# Altium footprint library HX711.PcbLib: 1 footprints
Each footprint in its own frame and in the unit in brackets; x right, y up, seen from the top. Pads: shape width x height; smd on the part's side, far side on the other; paste and mask are expansions set on the pad; w line width, h text height; cw(c..) or ccw(c..) is an arc to the next point about the centre after c.
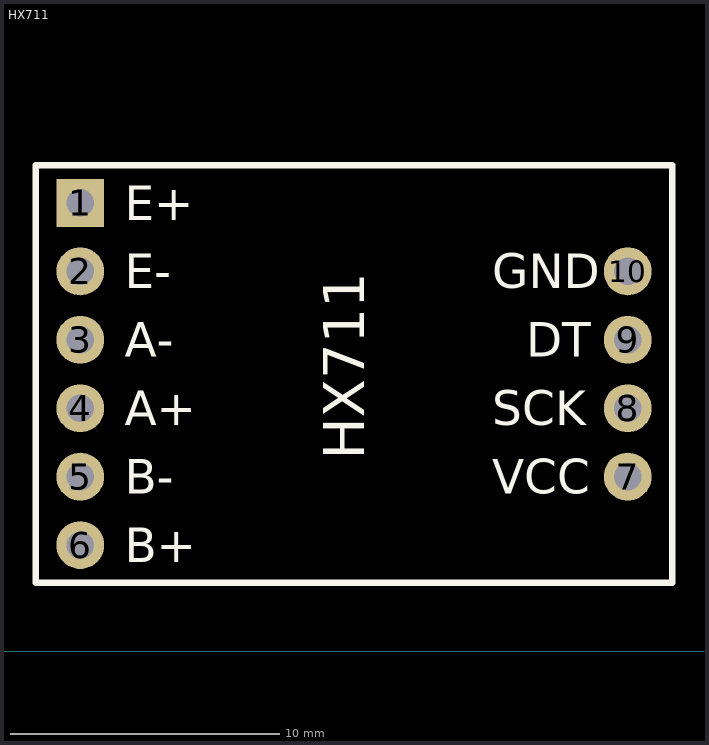
[diagram p0: the footprint, top view; thin cyan lines are the x and y axes]

## HX711 [mil]
pads (10):
  rect 70x70 hole 40: 1(155,655)
  round 70 hole 40: 2(155,555) 3(155,455) 4(155,355) 5(155,255) 6(155,155) 7(955,255) 8(955,355) 9(955,455) 10(955,555)
Top Overlay:
  lines w10: 90,100 1020,100 1020,710 90,710 90,100
  text "E+" at 220,630 h50
  text "E-" at 220,530 h50
  text "A-" at 220,430 h50
  text "A+" at 220,330 h50
  text "B-" at 220,230 h50
  text "B+" at 220,130 h50
  text "GND" at 756.71,530 h50
  text "DT" at 806.69,430 h50
  text "SCK" at 756.71,330 h50
  text "VCC" at 756.71,230 h50
  text "HX711" at 570,280 h60
3D body "HX711.step": height 509.06, standoff -34.25, extent 90.43,101.85 1019.57,708.15